# EAGLE library part MC14551BCPG (library on-semiconductor-01)
Multiplexer/Demultiplexer
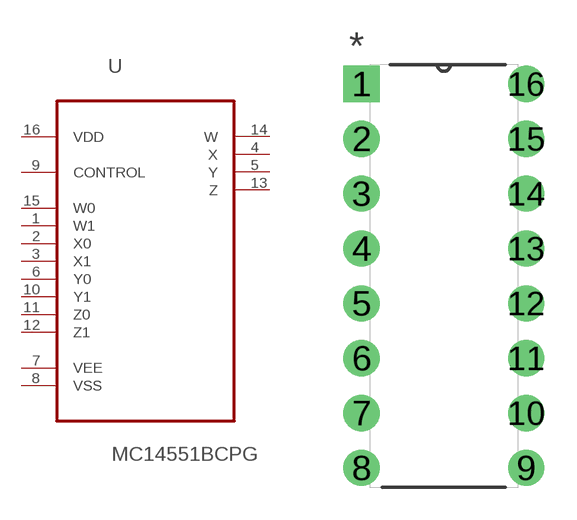
[diagram p298: symbol with the pads of DIP254P762X444-16; footprint DIP254P762X444-16]

Designator prefix U

## MC14551BCPG (MPN: MC14551BCPG; OC_FARNELL: 9665072; OC_NEWARK: 45J1130; PACKAGE: PDIP-16; SUPPLIER: On semiconductors)  [DIP254P762X444-16]
1  W1
2  X0
3  X1
4  X
5  Y
6  Y0
7  VEE  pwr
8  VSS  pwr
9  CONTROL  pas
10  Y1
11  Z0
12  Z1
13  Z
14  W
15  W0
16  VDD  pwr

## Footprint DIP254P762X444-16 (pad centres in mm)
drill 1.118 square: 1 -7.62,17.78
drill 1.118: 2 -7.62,15.24; 3 -7.62,12.7; 4 -7.62,10.16; 5 -7.62,7.62; 6 -7.62,5.08; 7 -7.62,2.54; 8 -7.62,0; 9 0,0; 10 0,2.54; 11 0,5.08; 12 0,7.62; 13 0,10.16; 14 0,12.7; 15 0,15.24; 16 0,17.78